# EAGLE library part JST-PH7 (library jst-ph)
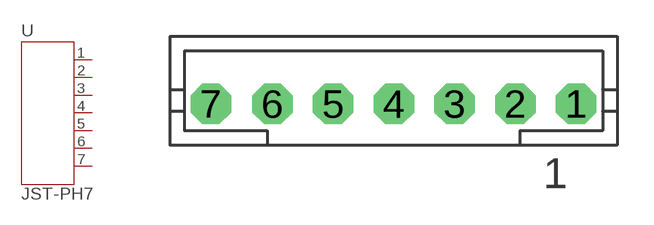
[diagram p1: symbol with the pads of JST-PH7; footprint JST-PH7]

Designator prefix -

## JST-PH7  [JST-PH7]
1  1  pas
2  2  pas
3  3  pas
4  4  pas
5  5  pas
6  6  pas
7  7  pas

## Footprint JST-PH7 (pad centres in mm)
drill 0.813 pad 1.676 octagon: 1 7.54,0; 2 5.032,0; 3 2.524,0; 4 0.016,0; 5 -2.492,0; 6 -5,0; 7 -7.54,0